# EAGLE library part CONN_FFC_1X06_SH (library GPLIB_CONN)
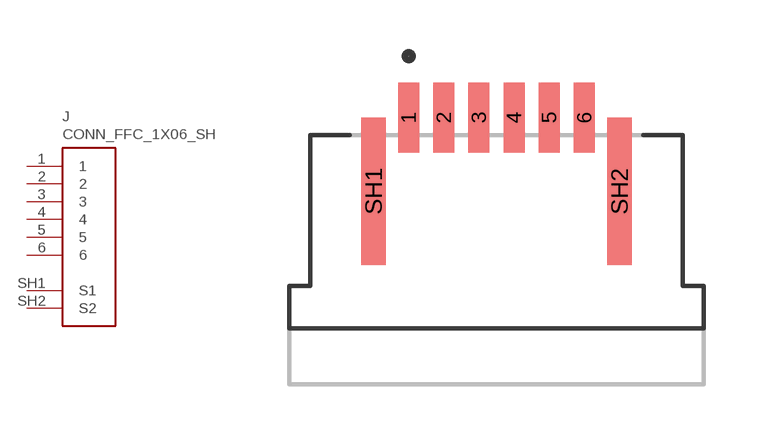
[diagram p41: symbol with the pads of CONN_FFC_1X06_1.0MM_SM_RA_SFW6R-2STE1LF; footprint CONN_FFC_1X06_1.0MM_SM_RA_SFW6R-2STE1LF]

Designator prefix J

## CONN_FFC_1X06_SH_1.0MM_SM_RA_SFW6R-2STE1LF  [CONN_FFC_1X06_1.0MM_SM_RA_SFW6R-2STE1LF]
1  1  pas
2  2  pas
3  3  pas
4  4  pas
5  5  pas
6  6  pas
SH1  S1  pas
SH2  S2  pas

## Footprint CONN_FFC_1X06_1.0MM_SM_RA_SFW6R-2STE1LF (pad centres in mm)
smd 0.6 x 2: 1 -2.5,1.05; 2 -1.5,1.05; 3 -0.5,1.05; 4 0.5,1.05; 5 1.5,1.05; 6 2.5,1.05
smd 0.7 x 4.2: SH1 -3.5,-1.05; SH2 3.5,-1.05